# Altium integrated library Altium_Other.IntLib: 1 symbol
Pins are listed as number, name and electrical type; pins without a type are passive.

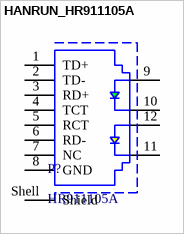
[diagram p0: symbol HANRUN_HR911105A]

## HANRUN_HR911105A
designator P?, comment HR911105A
Single Port RJ45 Connector with Integrated Magnetics and LED; ComponentLink2Description: Supplier 1 URL; ComponentLink2URL: N/A; Manufacture Name: N/A; Manufacture SN: N/A; Mounting Technology: THT; Operating Temperature: -55 to +125degC; Packaging: N/A; Supplier 1 Name: Mouser; Supplier 1 SN: N/A; Supplier 1 URL: N/A; Supplier 2 Name: Digi-Key; Supplier 2 SN: N/A; Supplier 2 URL: N/A; Supplier 3 Name: thegioiic; Supplier 3 SN: HR911105A; Supplier 3 URL: https://www.thegioiic.com/hr911105a-cong-rj45-cai-co-led-hanrun; Value: HR911105A; ComponentLink1Description: Datasheet link; ComponentLink1URL: https://tme.vn/upload/pdf/HR911105A.pdf; ComponentLink3Description: Supplier 2 URL; ComponentLink3URL: N/A; ComponentLink4Description: Supplier 3 URL; ComponentLink4URL: https://www.thegioiic.com/hr911105a-cong-rj45-cai-co-led-hanrun
footprint HANRUN_HR911105A
pins: 1 TD+, 2 TD-, 3 RD+, 4 TCT, 5 RCT, 6 RD-, 7 NC, 8 GND, 9, 10, 11, 12, Shell Shield